# Altium footprint library rlc.PcbLib: 45 footprints (part 1 of 3)
Each footprint in its own frame and in the unit in brackets; x right, y up, seen from the top. Pads: shape width x height; smd on the part's side, far side on the other; paste and mask are expansions set on the pad; w line width, h text height; cw(c..) or ccw(c..) is an arc to the next point about the centre after c.
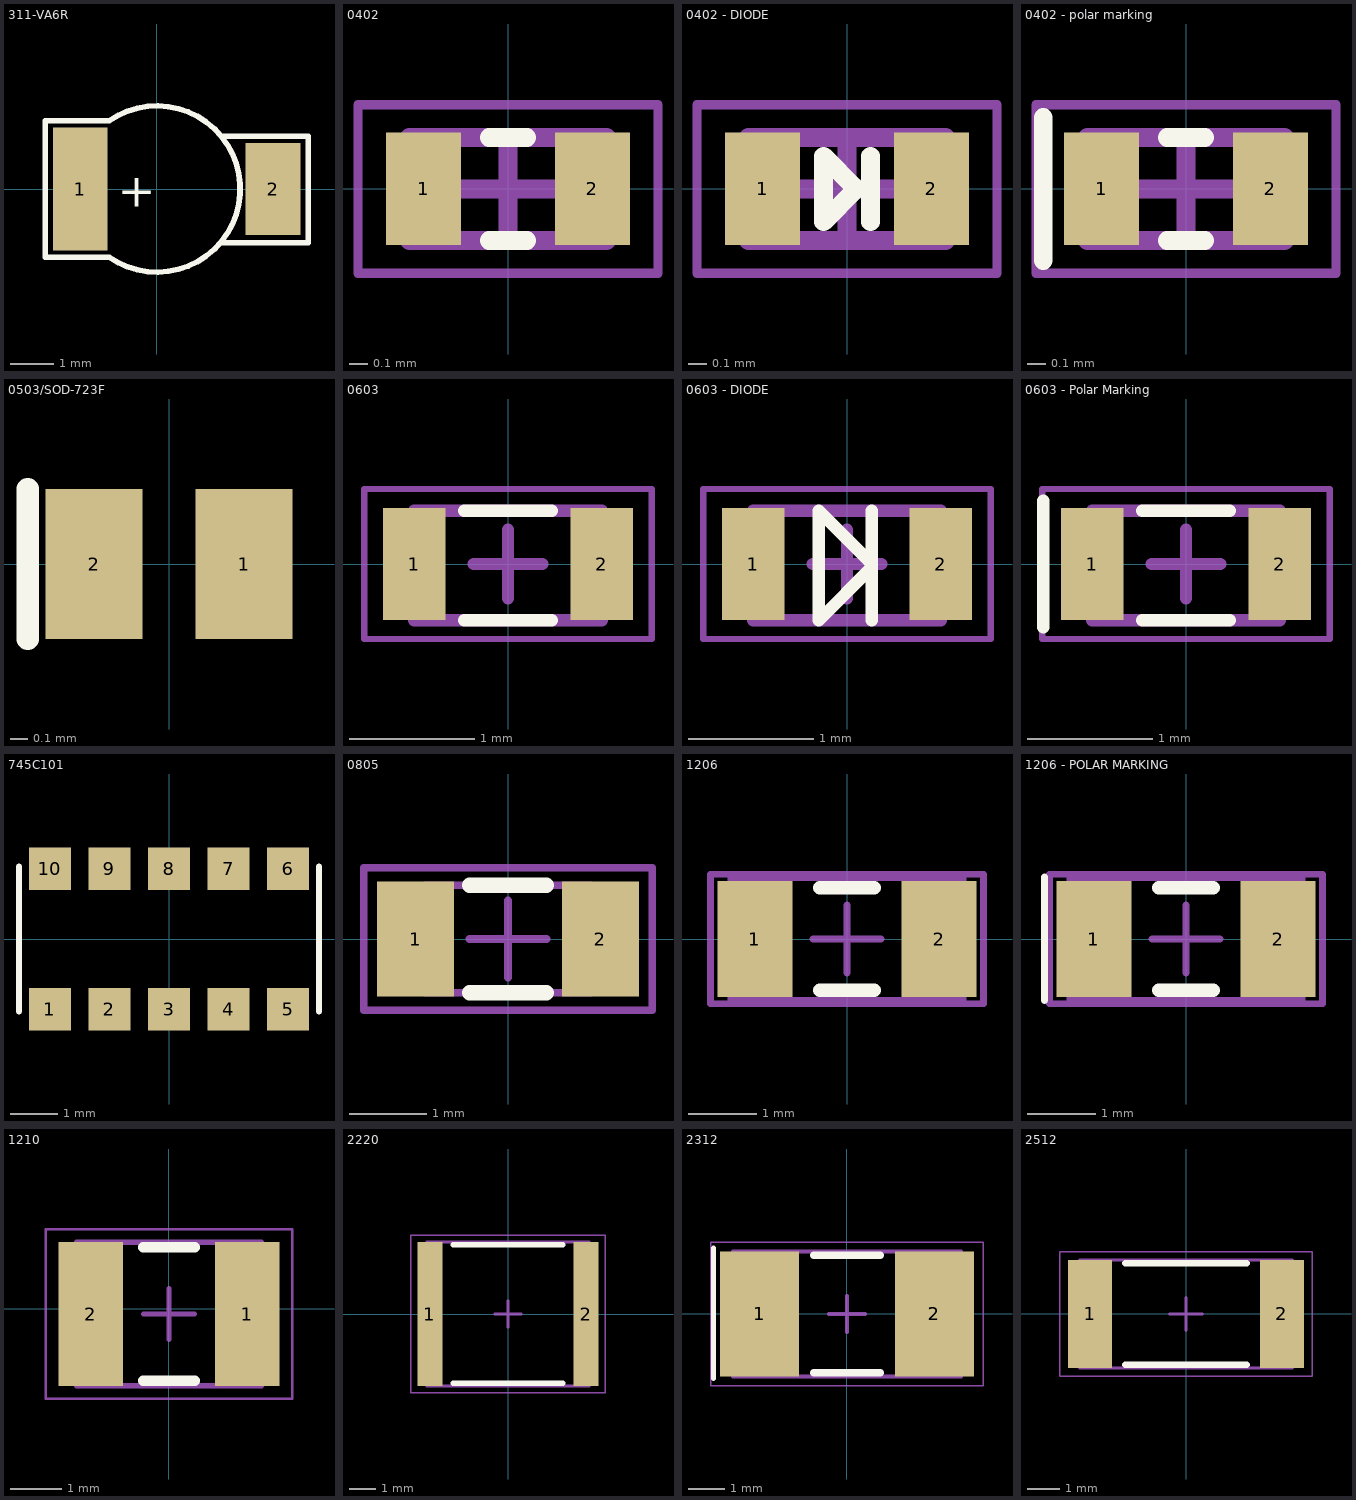
[diagram p0: the footprints below, top view; thin cyan lines are the x and y axes]

## 311-VA6R [mm] "TAIYO YUDEN supercap 311-VA6R series"
pads (2):
  rect 1.25x2.8 smd: 1(-1.75,0)
  rect 1.25x2.1 smd: 2(2.65,0)
Top Overlay:
  lines w0.127: 1.45,-1.225 3.45,-1.225 3.45,1.2 1.525,1.2 ; -2.55,-1.556 -1.09,-1.556 ccw(c0,0) -1.09,1.556 -2.55,1.556 -2.55,-1.556
  text "+" at -0.9,-0.4 h0.76
3D body: height 1.45, standoff 0, extent -1.9,-1.899 1.9,1.9

## 0402 [mm] "2-Leads, Body 1.00x0.50mm, IPC Medium Density"
height 0.4
pads (2):
  rect 0.4x0.6 smd: 1(-0.45,0) 2(0.45,0)
Top Overlay:
  lines w0.1: -0.1,-0.275 0.1,-0.275 ; -0.1,0.275 0.1,0.275
Mechanical 13:
  lines w0.1: -0.525,-0.275 -0.525,0.275 0.525,0.275 0.525,-0.275 -0.525,-0.275
Mechanical 15:
  lines w0.05: -0.8,-0.45 -0.8,0.45 0.8,0.45 0.8,-0.45 -0.8,-0.45
  lines w0.1: -0.275,0 0.275,0 ; 0,-0.275 0,0.275
3D body: height 0.4, standoff 0, extent -0.275,-0.275 0.275,0.275
3D body: height 0.4, standoff 0, extent -0.525,-0.275 -0.275,0.275
3D body: height 0.4, standoff 0, extent 0.275,-0.275 0.525,0.275

## 0402 - DIODE [mm] "2-Leads, Body 1.00x0.50mm, IPC Medium Density"
height 0.4
pads (2):
  rect 0.4x0.6 smd: 1(-0.45,0) 2(0.45,0)
Top Overlay:
  lines w0.1: 0.125,-0.175 0.125,0.175 ; -0.125,-0.175 -0.125,0.175 0.05,0 -0.125,-0.175
Mechanical 13:
  lines w0.1: -0.525,-0.275 -0.525,0.275 0.525,0.275 0.525,-0.275 -0.525,-0.275
Mechanical 15:
  lines w0.05: -0.8,-0.45 -0.8,0.45 0.8,0.45 0.8,-0.45 -0.8,-0.45
  lines w0.1: -0.275,0 0.275,0 ; 0,-0.275 0,0.275
3D body: height 0.4, standoff 0, extent -0.275,-0.275 0.275,0.275
3D body: height 0.4, standoff 0, extent -0.525,-0.275 -0.275,0.275
3D body: height 0.4, standoff 0, extent 0.275,-0.275 0.525,0.275

## 0402 - polar marking [mm] "2-Leads, Body 1.00x0.50mm, IPC Medium Density"
height 0.4
pads (2):
  rect 0.4x0.6 smd: 1(-0.45,0) 2(0.45,0)
Top Overlay:
  lines w0.1: -0.762,-0.381 -0.762,0.381 ; -0.1,-0.275 0.1,-0.275 ; -0.1,0.275 0.1,0.275
Mechanical 13:
  lines w0.1: -0.525,-0.275 0.525,-0.275 0.525,0.275 -0.525,0.275 -0.525,-0.275
Mechanical 15:
  lines w0.05: -0.8,-0.45 0.8,-0.45 0.8,0.45 -0.8,0.45 -0.8,-0.45
  lines w0.1: -0.275,0 0.275,0 ; 0,-0.275 0,0.275
3D body: height 0.4, standoff 0, extent 0.275,-0.275 0.525,0.275
3D body: height 0.4, standoff 0, extent -0.525,-0.275 -0.275,0.275
3D body: height 0.4, standoff 0, extent -0.275,-0.275 0.275,0.275

## 0503/SOD-723F [mm]
pads (2):
  rect 0.55x0.85 smd: 1(0.425,0) 2(-0.425,0)
Top Overlay:
  lines w0.127: -0.8,-0.425 -0.8,0.425
3D body: height 0.6, standoff 0, extent -0.575,-0.325 0.575,0.325

## 0603 [mm] "2-Leads, Body 1.55x0.85mm, IPC Medium Density"
height 0.4
pads (2):
  rect 0.5x0.9 smd: 1(-0.75,0) 2(0.75,0)
Top Overlay:
  lines w0.1: -0.35,-0.45 0.35,-0.45 ; -0.35,0.425 0.35,0.425
Mechanical 13:
  lines w0.1: -0.75,-0.45 0.75,-0.45 0.75,0.425 -0.75,0.425 -0.75,-0.45
Mechanical 15:
  lines w0.05: -1.15,-0.6 1.15,-0.6 1.15,0.6 -1.15,0.6 -1.15,-0.6
  lines w0.1: -0.275,0 0.275,0 ; 0,-0.275 0,0.275
3D body: height 0.5, standoff 0, extent 0.45,-0.425 0.75,0.425
3D body: height 0.5, standoff 0, extent -0.75,-0.425 -0.45,0.425
3D body: height 0.5, standoff 0, extent -0.45,-0.425 0.45,0.425

## 0603 - DIODE [mm] "2-Leads, Body 1.55x0.85mm, IPC Medium Density"
height 0.4
pads (2):
  rect 0.5x0.9 smd: 1(-0.75,0) 2(0.75,0)
Top Overlay:
  lines w0.1: 0.2,-0.45 0.2,0.425 ; 0.2,-0.025 -0.225,-0.45 -0.225,0.425 0.2,0
Mechanical 13:
  lines w0.1: -0.75,-0.45 0.75,-0.45 0.75,0.425 -0.75,0.425 -0.75,-0.45
Mechanical 15:
  lines w0.05: -1.15,-0.6 1.15,-0.6 1.15,0.6 -1.15,0.6 -1.15,-0.6
  lines w0.1: -0.275,0 0.275,0 ; 0,-0.275 0,0.275
3D body: height 0.5, standoff 0, extent 0.45,-0.425 0.75,0.425
3D body: height 0.5, standoff 0, extent -0.75,-0.425 -0.45,0.425
3D body: height 0.5, standoff 0, extent -0.45,-0.425 0.45,0.425

## 0603 - Polar Marking [mm] "2-Leads, Body 1.55x0.85mm, IPC Medium Density"
height 0.4
pads (2):
  rect 0.5x0.9 smd: 1(-0.75,0) 2(0.75,0)
Top Overlay:
  lines w0.1: -1.143,-0.508 -1.143,0.508 ; -0.35,-0.45 0.35,-0.45 ; -0.35,0.425 0.35,0.425
Mechanical 13:
  lines w0.1: -0.75,-0.45 -0.75,0.425 0.75,0.425 0.75,-0.45 -0.75,-0.45
Mechanical 15:
  lines w0.05: -1.15,-0.6 -1.15,0.6 1.15,0.6 1.15,-0.6 -1.15,-0.6
  lines w0.1: -0.275,0 0.275,0 ; 0,-0.275 0,0.275
3D body: height 0.5, standoff 0, extent -0.45,-0.425 0.45,0.425
3D body: height 0.5, standoff 0, extent -0.75,-0.425 -0.45,0.425
3D body: height 0.5, standoff 0, extent 0.45,-0.425 0.75,0.425

## 745C101 [mm] "CTS chip resistor array"
pads (10):
  rect 0.9x0.9 smd: 1(-2.54,-1.5) 2(-1.27,-1.5) 3(0,-1.5) 4(1.27,-1.5) 5(2.54,-1.5) 6(2.54,1.5) 7(1.27,1.5) 8(0,1.5) 9(-1.27,1.5) 10(-2.54,1.5)
Top Overlay:
  lines w0.127: -3.2,-1.55 -3.2,1.55 ; 3.2,-1.55 3.2,1.55

## 0805 [mm] "Chip Resistor, Body 2.0x1.2mm, IPC Low Density"
height 0.7
pads (2):
  rect 1x1.5 smd: 1(-1.2,0) 2(1.2,0)
Top Overlay:
  lines w0.2: -0.5,-0.7 0.5,-0.7 ; -0.5,0.7 0.5,0.7
Mechanical 13:
  lines w0.1: -1.075,-0.7 -1.075,0.7 1.075,0.7 1.075,-0.7 -1.075,-0.7
Mechanical 15:
  lines w0.1: -0.5,0 0.5,0 ; 0,-0.5 0,0.5 ; -1.875,-0.925 -1.875,0.925 1.875,0.925 1.875,-0.925 -1.875,-0.925
3D body: height 0.7, standoff 0, extent -1.075,-0.7 1.075,0.7

## 1206 [mm]
pads (2):
  rect 1.1x1.7 smd: 1(-1.35,0) 2(1.35,0)
Top Overlay:
  lines w0.2: -0.4,-0.75 0.4,-0.75 ; -0.4,0.75 0.4,0.75
Mechanical 13:
  lines w0.1: -1.7,-0.9 1.7,-0.9 1.7,0.9 -1.7,0.9 -1.7,-0.9
Mechanical 15:
  lines w0.1: -0.5,0 0.5,0 ; 0,-0.5 0,0.5 ; -2,-0.95 2,-0.95 2,0.95 -2,0.95 -2,-0.95
3D body: height 1.3, standoff 0, extent -1.7,-0.9 1.7,0.9

## 1206 - POLAR MARKING [mm]
pads (2):
  rect 1.1x1.7 smd: 1(-1.35,0) 2(1.35,0)
Top Overlay:
  lines w0.1: -2.075,-0.9 -2.075,0.908
  lines w0.2: -0.4,-0.75 0.4,-0.75 ; -0.4,0.75 0.4,0.75
Mechanical 13:
  lines w0.1: -1.7,-0.9 1.7,-0.9 1.7,0.9 -1.7,0.9 -1.7,-0.9
Mechanical 15:
  lines w0.1: -0.5,0 0.5,0 ; 0,-0.5 0,0.5 ; -2,-0.95 2,-0.95 2,0.95 -2,0.95 -2,-0.95
3D body: height 1.3, standoff 0, extent -1.7,-0.9 1.7,0.9

## 1210 [mm]
pads (2):
  rect 1.25x2.8 smd: 1(1.525,-0.102) 2(-1.525,-0.102)
Top Overlay:
  lines w0.2: -0.5,-1.402 0.5,-1.402 ; -0.5,1.198 0.5,1.198
Mechanical 13:
  lines w0.1: -1.8,-1.502 -1.8,1.298 1.8,1.298 1.8,-1.502 -1.8,-1.502
Mechanical 15:
  lines w0.05: -2.4,-1.752 -2.4,1.548 2.4,1.548 2.4,-1.752 -2.4,-1.752
  lines w0.1: -0.5,-0.102 0.5,-0.102 ; 0,-0.602 0,0.398
3D body: height 2.8, standoff 0, extent -1.3,-1.502 1.3,1.298
3D body: height 2.8, standoff 0, extent 1.3,-1.502 1.8,1.298
3D body: height 2.8, standoff 0, extent -1.8,-1.502 -1.3,1.298

## 2220 [mm] "Chip Capacitor, 2-Leads, Body 5.70x5.00mm, IPC Medium Density"
height 2.5
pads (2):
  rect 0.95x5.4 smd: 1(-2.925,0) 2(2.925,0)
Top Overlay:
  lines w0.2: -2.05,-2.6 2.05,-2.6 ; -2.05,2.6 2.05,2.6
Mechanical 13:
  lines w0.1: -3.05,-2.7 3.05,-2.7 3.05,2.7 -3.05,2.7 -3.05,-2.7
Mechanical 15:
  lines w0.05: -3.65,-2.95 3.65,-2.95 3.65,2.95 -3.65,2.95 -3.65,-2.95
  lines w0.1: -0.5,0 0.5,0 ; 0,-0.5 0,0.5
3D body: height 2.5, standoff 0, extent 2.85,-2.7 3.05,2.7
3D body: height 2.5, standoff 0, extent -3.05,-2.7 -2.85,2.7
3D body: height 2.5, standoff 0, extent -2.85,-2.7 2.85,2.7

## 2312 [mm] "Chip Capacitor, 2-Leads, Body 6.00x3.20mm, IPC Medium Density"
height 2.6
pads (2):
  rect 2.15x3.4 smd: 1(-2.375,0) 2(2.375,0)
Top Overlay:
  lines w0.127: -3.625,-1.75 -3.625,1.8
  lines w0.2: -0.9,-1.6 0.9,-1.6 ; -0.9,1.6 0.9,1.6
Mechanical 13:
  lines w0.1: -3.1,-1.7 -3.1,1.7 3.1,1.7 3.1,-1.7 -3.1,-1.7
Mechanical 15:
  lines w0.05: -3.7,-1.95 -3.7,1.95 3.7,1.95 3.7,-1.95 -3.7,-1.95
  lines w0.1: -0.5,0 0.5,0 ; 0,-0.5 0,0.5
3D body: height 2.6, standoff 0, extent -1.75,-1.7 1.75,1.7
3D body: height 2.6, standoff 0, extent -3.1,-1.7 -1.75,1.7
3D body: height 2.6, standoff 0, extent 1.75,-1.7 3.1,1.7

## 2512 [mm] "Chip Capacitor, 2-Leads, Body 6.30x3.10mm, IPC Medium Density"
height 0.8
pads (2):
  rect 1.35x3.3 smd: 1(-2.925,0) 2(2.925,0)
Top Overlay:
  lines w0.2: -1.85,-1.55 1.85,-1.55 ; -1.85,1.55 1.85,1.55
Mechanical 13:
  lines w0.1: -3.25,-1.65 3.25,-1.65 3.25,1.65 -3.25,1.65 -3.25,-1.65
Mechanical 15:
  lines w0.05: -3.85,-1.9 3.85,-1.9 3.85,1.9 -3.85,1.9 -3.85,-1.9
  lines w0.1: -0.5,0 0.5,0 ; 0,-0.5 0,0.5
3D body: height 0.8, standoff 0, extent 2.65,-1.65 3.25,1.65
3D body: height 0.8, standoff 0, extent -3.25,-1.65 -2.65,1.65
3D body: height 0.8, standoff 0, extent -2.65,-1.65 2.65,1.65